# EAGLE library part MAX127 (library max127)
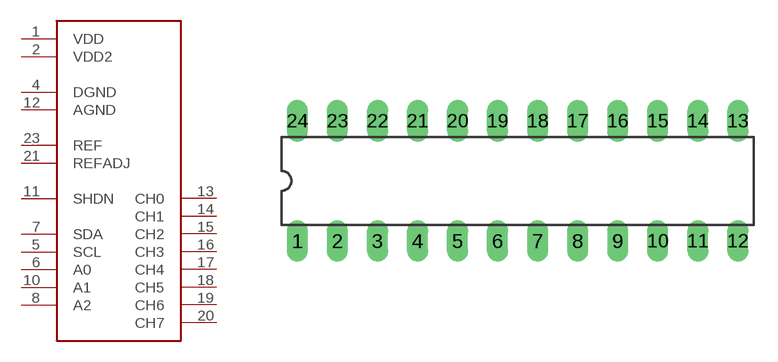
[diagram p0: symbol with the pads of DIL24-3; footprint DIL24-3]

Designator prefix -

## MAX127  [DIL24-3]
1  VDD
2  VDD2
4  DGND
5  SCL
6  A0
7  SDA
8  A2
10  A1
11  SHDN
12  AGND
13  CH0
14  CH1
15  CH2
16  CH3
17  CH4
18  CH5
19  CH6
20  CH7
21  REFADJ
23  REF

## Footprint DIL24-3 (pad centres in mm)
Dual In Line Package 0.3 inch
drill 0.813 long: 1 -13.97,-3.81; 2 -11.43,-3.81; 3 -8.89,-3.81; 4 -6.35,-3.81; 5 -3.81,-3.81; 6 -1.27,-3.81; 7 1.27,-3.81; 8 3.81,-3.81; 9 6.35,-3.81; 10 8.89,-3.81; 11 11.43,-3.81; 12 13.97,-3.81; 13 13.97,3.81; 14 11.43,3.81; 15 8.89,3.81; 16 6.35,3.81; 17 3.81,3.81; 18 1.27,3.81; 19 -1.27,3.81; 20 -3.81,3.81; 21 -6.35,3.81; 22 -8.89,3.81; 23 -11.43,3.81; 24 -13.97,3.81